# EAGLE library part SN74LVTH245APW_SN74LVTH245APW (library demon)
Check availability <https://pricing.snapeda.com/parts/SN74LVTH245APW/Texas%20Instruments/view-part?ref=eda>
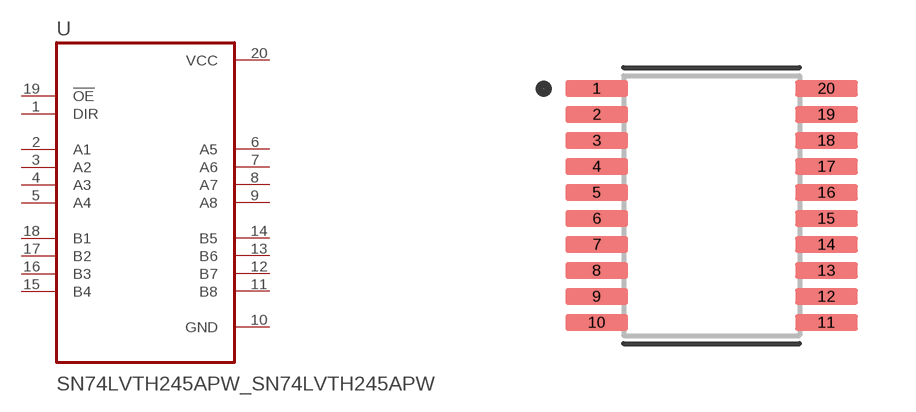
[diagram p4: symbol with the pads of SN74LVTH245APW_SOP65P640X120-20N; footprint SN74LVTH245APW_SOP65P640X120-20N]

Designator prefix U

## SN74LVTH245APW_SN74LVTH245APW (AVAILABILITY: In Stock; DESCRIPTION: 3.3-V ABT Octal Bus Transceivers With 3-State Outputs; MF: Texas Instruments; MP: SN74LVTH245APW; PACKAGE: TSSOP-20 Texas Instruments; PRICE: None; PURCHASE-URL: https://pricing.snapeda.com/search/part/SN74LVTH245APW/?ref=eda)  [SN74LVTH245APW_SOP65P640X120-20N]
1  DIR  in
2  A1
3  A2
4  A3
5  A4
6  A5
7  A6
8  A7
9  A8
10  GND  pwr
11  B8
12  B7
13  B6
14  B5
15  B4
16  B3
17  B2
18  B1
19  !OE  in
20  VCC  pwr

## Footprint SN74LVTH245APW_SOP65P640X120-20N (pad centres in mm)
smd 1.57 x 0.41: 1 -2.87,2.925; 2 -2.87,2.275; 3 -2.87,1.625; 4 -2.87,0.975; 5 -2.87,0.325; 6 -2.87,-0.325; 7 -2.87,-0.975; 8 -2.87,-1.625; 9 -2.87,-2.275; 10 -2.87,-2.925; 11 2.87,-2.925; 12 2.87,-2.275; 13 2.87,-1.625; 14 2.87,-0.975; 15 2.87,-0.325; 16 2.87,0.325; 17 2.87,0.975; 18 2.87,1.625; 19 2.87,2.275; 20 2.87,2.925